# EAGLE library part PINHEAD2X4_NRF24L01_BOARD (library pinhead)
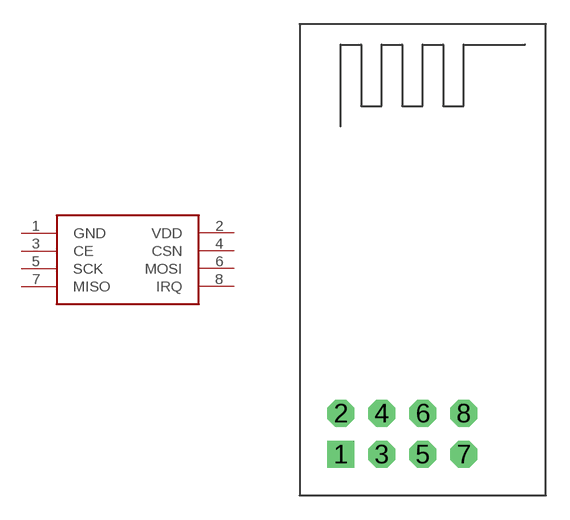
[diagram p1: symbol with the pads of PINHEAD2X4_NRF24L01_BOARD; footprint PINHEAD2X4_NRF24L01_BOARD]

Designator prefix -

## PINHEAD2X4_NRF24L01_BOARD  [PINHEAD2X4_NRF24L01_BOARD]
1  GND
2  VDD
3  CE
4  CSN
5  SCK
6  MOSI
7  MISO
8  IRQ

## Footprint PINHEAD2X4_NRF24L01_BOARD (pad centres in mm)
drill 0.8 pad 1.676 square: 1 2.54,2.54
drill 0.8 pad 1.676 octagon: 2 2.54,5.08; 3 5.08,2.54; 4 5.08,5.08; 5 7.62,2.54; 6 7.62,5.08; 7 10.16,2.54; 8 10.16,5.08